# Altium integrated library 2484637-1.IntLib: 1 symbol
Pins are listed as number, name and electrical type; pins without a type are passive.

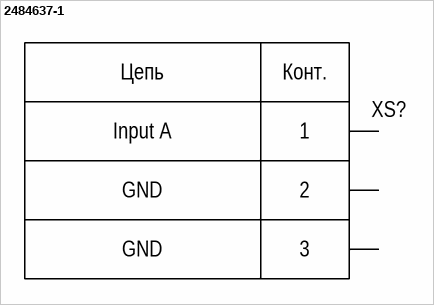
[diagram p0: symbol 2484637-1]

## 2484637-1
designator XS?  (value not drawn)
SMA Jack
pins: 1 Input A, 2 GND, 3 GND
1 alternate drawing of the same symbol
text: Цепь; Конт.